# Altium footprint library TPS25982.PcbLib: 1 footprints
Each footprint in its own frame and in the unit in brackets; x right, y up, seen from the top. Pads: shape width x height; smd on the part's side, far side on the other; paste and mask are expansions set on the pad; w line width, h text height; cw(c..) or ccw(c..) is an arc to the next point about the centre after c.
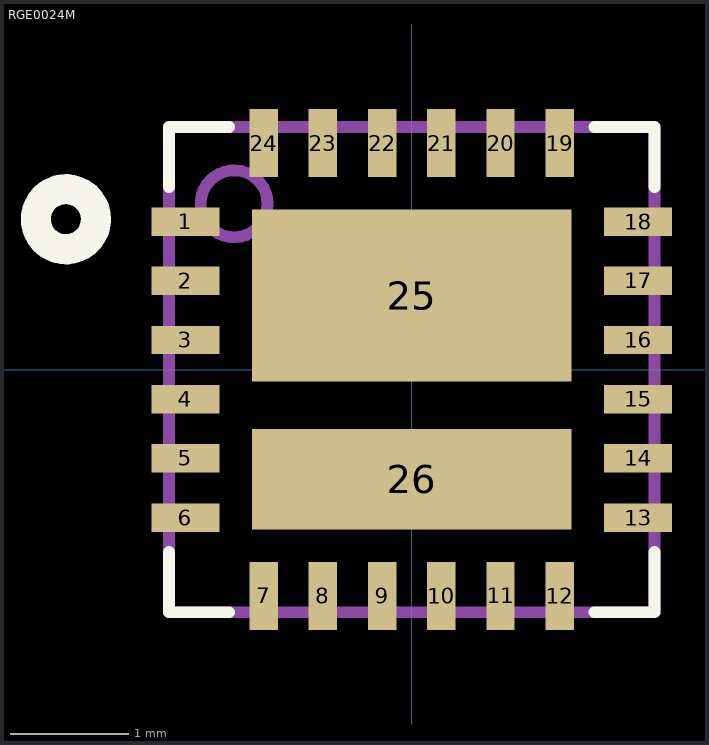
[diagram p0: the footprint, top view; thin cyan lines are the x and y axes]

## RGE0024M [mm] "eFuse"
height 1
pads (26):
  rect 0.575x0.24 smd paste+0 mask+0.051: 1(-1.913,1.25) 2(-1.913,0.75) 3(-1.913,0.25) 4(-1.913,-0.25) 5(-1.913,-0.75) 6(-1.913,-1.25) 13(1.913,-1.25) 14(1.913,-0.75) 15(1.913,-0.25) 16(1.913,0.25) 17(1.913,0.75) 18(1.913,1.25)
  rect 0.24x0.575 smd paste+0 mask+0.051: 7(-1.25,-1.912) 8(-0.75,-1.912) 9(-0.25,-1.912) 10(0.25,-1.912) 11(0.75,-1.912) 12(1.25,-1.912) 19(1.25,1.913) 20(0.75,1.913) 21(0.25,1.913) 22(-0.25,1.913) 23(-0.75,1.913) 24(-1.25,1.913)
  rect 2.7x1.45 smd paste-1.337 mask+0.051: 25(0,0.625)
  rect 2.7x0.85 smd paste-1.337 mask+0.051: 26(0,-0.925)
Top Overlay:
  circle w0.254: c-2.921,1.27 r0.254
  lines w0.1: -2.05,-1.542 -2.05,-2.05 -1.542,-2.05 ; -2.05,1.542 -2.05,2.05 -1.542,2.05 ; 1.542,-2.05 2.05,-2.05 2.05,-1.542 ; 1.542,2.05 2.05,2.05 2.05,1.542
Top Paste:
  region: 0.15,-0.025 0.1,0.025 0.1,1.225 0.15,1.275 1.238,1.275 1.288,1.225 1.288,0.025 1.238,-0.025
  region: -0.15,-0.025 -0.1,0.025 -0.1,1.225 -0.15,1.275 -1.238,1.275 -1.288,1.225 -1.288,0.025 -1.238,-0.025
  region: 0.15,-1.305 0.1,-1.255 0.1,-0.595 0.15,-0.545 1.238,-0.545 1.288,-0.595 1.288,-1.255 1.238,-1.305
  region: -0.15,-1.305 -0.1,-1.255 -0.1,-0.595 -0.15,-0.545 -1.238,-0.545 -1.288,-0.595 -1.288,-1.255 -1.238,-1.305
Mechanical 13:
  circle w0.1: c-1.5,1.4 r0.283
  lines w0.1: -2.05,-2.05 2.05,-2.05 2.05,2.05 -2.05,2.05 -2.05,-2.05
3D body: height 1, standoff 0, extent -2.032,-2.032 2.032,2.032
3D body: height 0.25, standoff 0, extent 0,0 0.254,0.254